# Altium schematic symbol library jumpers.SchLib: 8 symbols
Pins are listed as number, name and electrical type; pins without a type are passive.

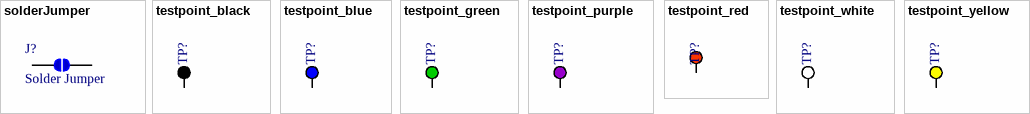
[diagram p0: symbols solderJumper to testpoint_yellow]

## solderJumper
designator J?, comment Solder Jumper
pins: 1, 2

## testpoint_black
designator TP?, comment Test Point  (value not drawn)
Test Point Black
footprint tp_30mil (30 mil test point)
pins: 1

## testpoint_blue
designator TP?, comment Test Point  (value not drawn)
Test Point Blue
footprint tp_30mil (30 mil test point)
pins: 1

## testpoint_green
designator TP?, comment Test Point  (value not drawn)
Test Point Green
footprint tp_30mil (30 mil test point)
pins: 1

## testpoint_purple
designator TP?, comment Test Point  (value not drawn)
Test Point Purple
footprint tp_30mil (30 mil test point)
pins: 1

## testpoint_red
designator TP?, comment Test Point  (value not drawn)
Test Point Red
footprint tp_30mil (30 mil test point)
pins: 1

## testpoint_white
designator TP?, comment Test Point  (value not drawn)
Test Point White
footprint tp_30mil (30 mil test point)
pins: 1

## testpoint_yellow
designator TP?, comment Test Point  (value not drawn)
Test Point Yellow
footprint tp_30mil (30 mil test point)
pins: 1